# EAGLE library part 61400416021 (library Wurth_Elektronik_Electromechanic_Input-Output_Connectors_rev16b)
WR-COM Horizontal USB Type A=>Code :Con_I-O_COM_USB_2.0_A_61400416021 <http://katalog.we-online.de/media/images/eican/Con_I-O_COM_USB_2.0_A_61400416021_pf2.jpg> Details see: http://katalog.we-online.de/en/em/614_004_160_21 Created 2014-07-09, Karrer Zheng 2014 (C) Würth Elektronik
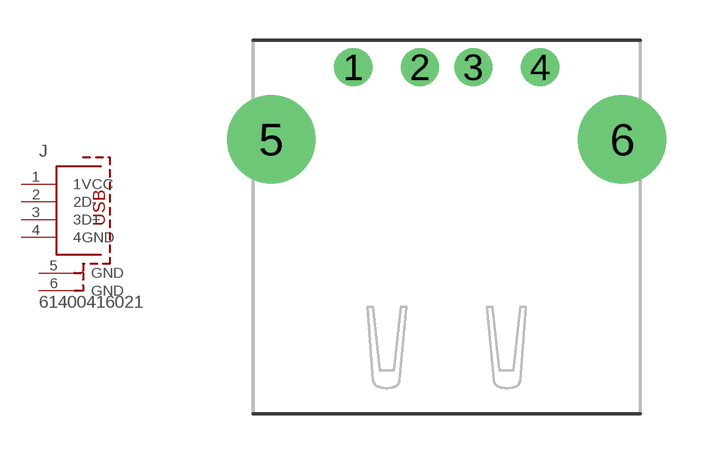
[diagram p159: symbol with the pads of 61400416021; footprint 61400416021]

Designator prefix J

## 61400416021  [61400416021]
1  1VCC
2  2D-
3  3D+
4  4GND
5  GND
6  GND

## Footprint 61400416021 (pad centres in mm)
WR-COM Horizontal USB Type A
drill 0.92: 1 -3.5,2.71; 2 -1,2.71; 3 1,2.71; 4 3.5,2.71
drill 2.3: 5 -6.57,0; 6 6.57,0